# Altium schematic symbol library CELC.SchLib: 1 symbol
Pins are listed as number, name and electrical type; pins without a type are passive.

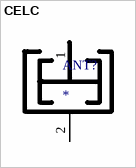
[diagram p0: symbol CELC]

## CELC
designator ANT?
footprint PCBComponent_1
pins: 1 RF, 2 GND